# EAGLE library part IC-SOCKET-2X4P (library OPL)
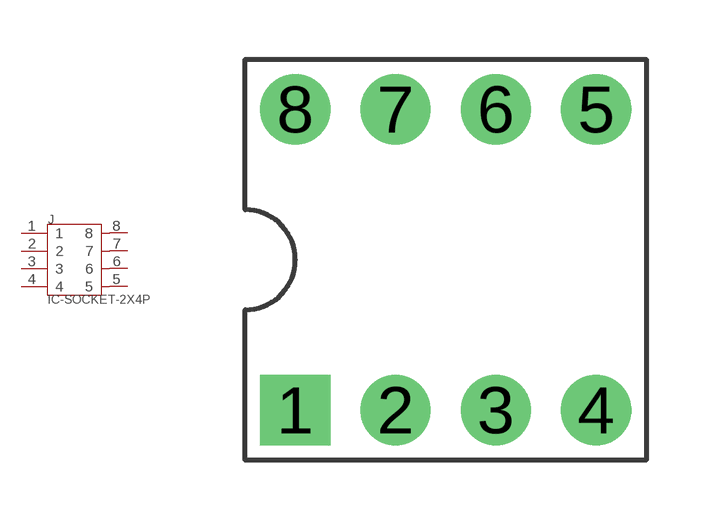
[diagram p31: symbol with the pads of DIP-8; footprint DIP-8]

Designator prefix J

## IC-SOCKET-2X4P-320070014  [DIP-8]
1  1
2  2
3  3
4  4
5  5
6  6
7  7
8  8

## Footprint DIP-8 (pad centres in mm)
drill 1.016 pad 1.778 square: 1 -3.81,-3.81
drill 1.016 pad 1.778: 2 -1.27,-3.81; 3 1.27,-3.81; 4 3.81,-3.81; 5 3.81,3.81; 6 1.27,3.81; 7 -1.27,3.81; 8 -3.81,3.81